# Altium schematic symbol library BR3FB5L00.SchLib: 2 symbols
Pins are listed as number, name and electrical type; pins without a type are passive.

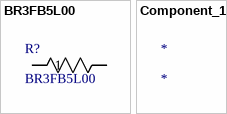
[diagram p0: symbols BR3FB5L00 to Component_1]

## BR3FB5L00
designator R?
No Description Available; Mfr_Name: Stackpole International; Copyright: Copyright (C) 2022 Ultra Librarian. All rights reserved.; Manufacturer_Part_Number: BR3FB5L00; Digi-Key_Part_Number_1: BR3FB5L00-ND; RefDes: RefDes; Type: DEV
footprint RES_BR3_STP
footprint RES_BR3_STP
pins: 1, 2

## Component_1
designator *